# Altium schematic symbol library RainbowF103C.SchLib: 1 symbol
Pins are listed as number, name and electrical type; pins without a type are passive.

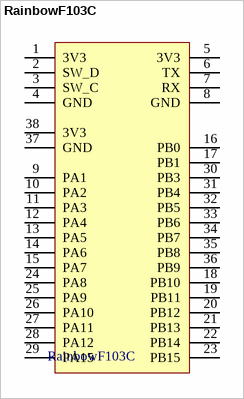
[diagram p0: symbol RainbowF103C]

## RainbowF103C
designator RainbowF103C  (value not drawn)
Module
footprint RainbowF103C
footprint RainbowF103C
pins: 1 3V3, 2 SW_D, 3 SW_C, 4 GND, 5 3V3, 6 TX, 7 RX, 8 GND, 9 PA1, 10 PA2, 11 PA3, 12 PA4, 13 PA5, 14 PA6, 15 PA7, 16 PB0, 17 PB1, 18 PB10, 19 PB11, 20 PB12, 21 PB13, 22 PB14, 23 PB15, 24 PA8, 25 PA9, 26 PA10, 27 PA11, 28 PA12, 29 PA15, 30 PB3, 31 PB4, 32 PB5, 33 PB6, 34 PB7, 35 PB8, 36 PB9, 37 GND, 38 3V3